# EAGLE library part XIAO (library Arduino-shield-scaffolds)
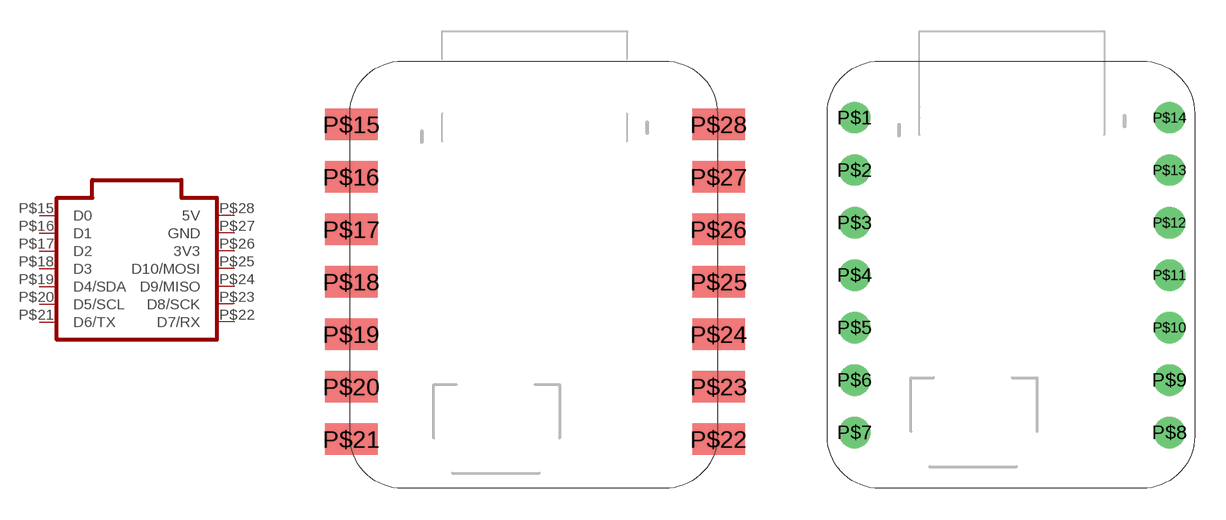
[diagram p9: symbol with the pads of XIAO-SMT; footprints XIAO-SMT, XIAO-F]

Designator prefix -

## XIAO-SMT  [XIAO-SMT]
P$15  D0
P$16  D1
P$17  D2
P$18  D3
P$19  D4/SDA
P$20  D5/SCL
P$21  D6/TX
P$22  D7/RX
P$23  D8/SCK
P$24  D9/MISO
P$25  D10/MOSI
P$26  3V3
P$27  GND
P$28  5V

## XIAO-PINS  [XIAO-F]
P$1  D0
P$2  D1
P$3  D2
P$4  D3
P$5  D4/SDA
P$6  D5/SCL
P$7  D6/TX
P$8  D7/RX
P$9  D8/SCK
P$10  D9/MISO
P$11  D10/MOSI
P$12  3V3
P$13  GND
P$14  5V

## Footprint XIAO-SMT (pad centres in mm)
smd 2.54 x 1.524: P$15 -8.89,6.35; P$16 -8.89,3.81; P$17 -8.89,1.27; P$18 -8.89,-1.27; P$19 -8.89,-3.81; P$20 -8.89,-6.35; P$21 -8.89,-8.89; P$22 8.89,-8.89; P$23 8.89,-6.35; P$24 8.89,-3.81; P$25 8.89,-1.27; P$26 8.89,1.27; P$27 8.89,3.81; P$28 8.89,6.35

## Footprint XIAO-F (pad centres in mm)
drill 1: P$1 -7.62,6.668; P$2 -7.62,4.128; P$3 -7.62,1.587; P$4 -7.62,-0.953; P$5 -7.62,-3.493; P$6 -7.62,-6.032; P$7 -7.62,-8.572; P$8 7.62,-8.572; P$9 7.62,-6.032; P$10 7.62,-3.493; P$11 7.62,-0.953; P$12 7.62,1.587; P$13 7.62,4.128; P$14 7.62,6.668